# EAGLE library part NC7WZ241K8X (library NC7WZ241K8X)
Patented noise/EMI reduction circuitry implemented; MicroPak Pb-Free leadless package; Outputs are overvoltage tolerant in 3-STATE mode; Power down high impedance inputs/outputs; Broad VCC Operating Range: 1.65V to 5.5V; High Output Drive; +/-24 mA at 3V VCC; Matches the performance of LCX when operated at 3.3V VCC; Space saving US8 surface mount package; Overvoltage tolerant inputs facilitate 5V to 3V translation; Ultra High Speed; tPD 2.6 ns Typ into 50 pF at 5V VCC Source: Datasheet <https://www.onsemi.com/pub/Collateral/NC7WZ241-D.PDF>
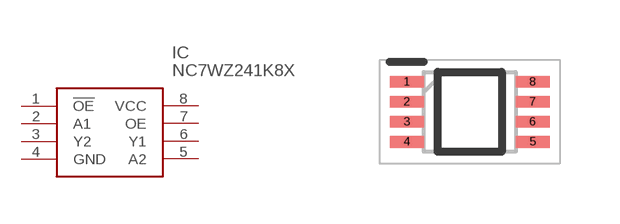
[diagram p0: symbol with the pads of SOP50P310X90-8N; footprint SOP50P310X90-8N]

Designator prefix IC

## NC7WZ241K8X (Description: Patented noise/EMI reduction circuitry implemented; MicroPak Pb-Free leadless package; Outputs are overvoltage tolerant in 3-STATE mode; Power down high impedance inputs/outputs; Broad VCC Operating Range: 1.65V to 5.5V; High Output Drive; +/-24 mA at 3V VCC; Matches the performance of LCX when operated at 3.3V VCC; Space saving US8 surface mount package; Overvoltage tolerant inputs facilitate 5V to 3V translation; Ultra High Speed; tPD 2.6 ns Typ into 50 pF at 5V VCC; Height: 0.9mm; Manufacturer_Name: onsemi; Manufacturer_Part_Number: NC7WZ241K8X; Mouser_Part_Number: 512-NC7WZ241K8X; Mouser_Price-Stock: https://www.mouser.co.uk/ProductDetail/ON-Semiconductor-Fairchild/NC7WZ241K8X?qs=MA%252B40jw2YMo9oG31N%252Bvd7A%3D%3D)  [SOP50P310X90-8N]
1  !OE
2  A1
3  Y2
4  GND
5  A2
6  Y1
7  OE
8  VCC

## Footprint SOP50P310X90-8N (pad centres in mm)
8-Lead US8
smd 0.85 x 0.3: 1 -1.575,0.75; 2 -1.575,0.25; 3 -1.575,-0.25; 4 -1.575,-0.75; 5 1.575,-0.75; 6 1.575,-0.25; 7 1.575,0.25; 8 1.575,0.75